# Altium footprint library PEI_PCB_1.1.PcbLib: 310 footprints (part 6 of 20)
Each footprint in its own frame and in the unit in brackets; x right, y up, seen from the top. Pads: shape width x height; smd on the part's side, far side on the other; paste and mask are expansions set on the pad; w line width, h text height; cw(c..) or ccw(c..) is an arc to the next point about the centre after c.
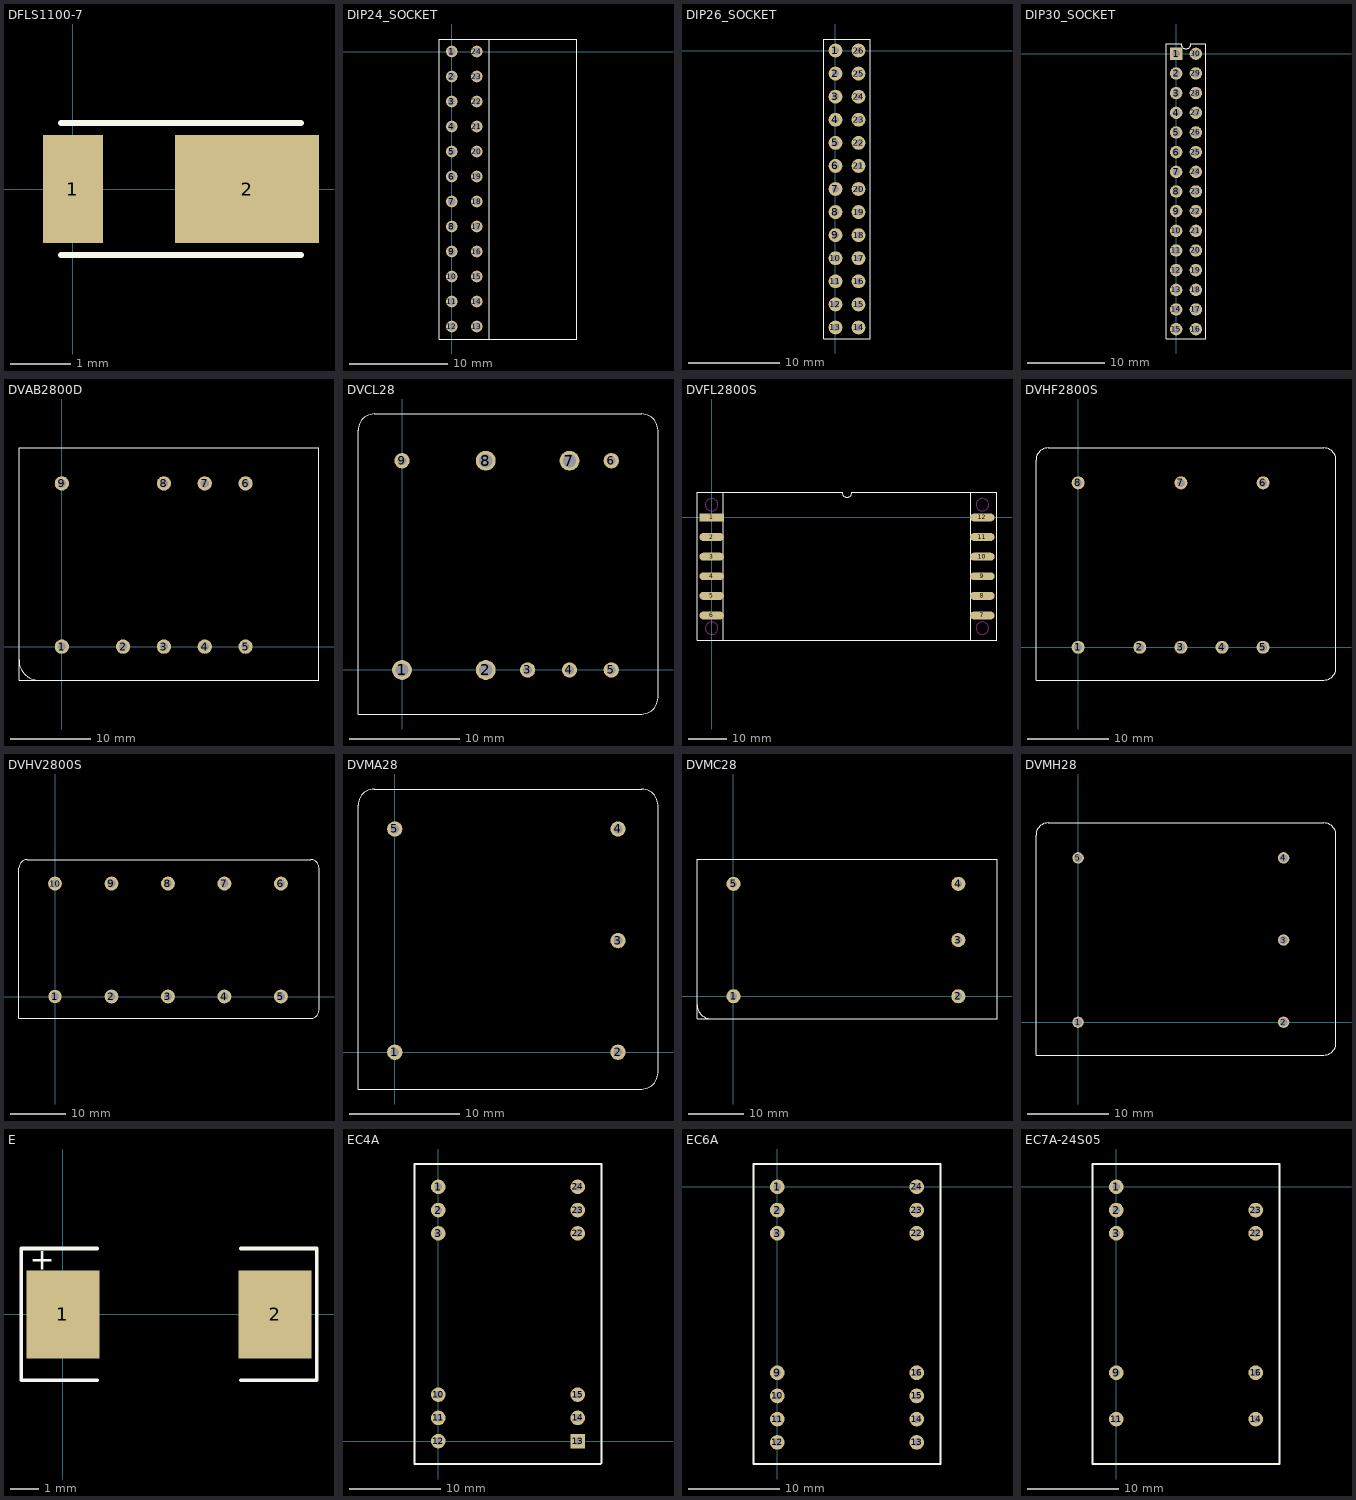
[diagram p5: the footprints below, top view; thin cyan lines are the x and y axes]

## DFLS1100-7 [mm]
pads (2):
  rect 1x1.8 smd: 1(0,0)
  rect 2.4x1.8 smd: 2(2.9,0)
TopOverlay:
  lines w0.1: -0.2,-1.1 3.8,-1.1 ; -0.2,1.1 3.8,1.1

## DIP24_SOCKET [mm]
pads (24):
  round 1.2 hole 0.8: 1(0,0) 2(0,-2.54) 3(0,-5.08) 4(0,-7.62) 5(0,-10.16) 6(0,-12.7) 7(0,-15.24) 8(0,-17.78) 9(0,-20.32) 10(0,-22.86) 11(0,-25.4) 12(0,-27.94) 13(2.54,-27.94) 14(2.54,-25.4) 15(2.54,-22.86) 16(2.54,-20.32) 17(2.54,-17.78) 18(2.54,-15.24) 19(2.54,-12.7) 20(2.54,-10.16) 21(2.54,-7.62) 22(2.54,-5.08) 23(2.54,-2.54) 24(2.54,0)
TopOverlay:
  lines w0.127: 3.81,-29.21 3.81,1.27 ; -1.27,-29.21 12.7,-29.21 12.7,1.27 -1.27,1.27 -1.27,-29.21

## DIP26_SOCKET [mil]
pads (26):
  round 60 hole 30: 1(0,0) 2(0,-100) 3(0,-200) 4(0,-300) 5(0,-400) 6(0,-500) 7(0,-600) 8(0,-700) 9(0,-800) 10(0,-900) 11(0,-1000) 12(0,-1100) 13(0,-1200) 14(100,-1200) 15(100,-1100) 16(100,-1000) 17(100,-900) 18(100,-800) 19(100,-700) 20(100,-600) 21(100,-500) 22(100,-400) 23(100,-300) 24(100,-200) 25(100,-100) 26(100,0)
TopOverlay:
  lines w5: -50,-1250 -50,50 150,50 150,-1250 -50,-1250

## DIP30_SOCKET [mm]
pads (30):
  rect 1.6x1.6 hole 1: 1(0,0)
  round 1.6 hole 1: 2(0,-2.54) 3(0,-5.08) 4(0,-7.62) 5(0,-10.16) 6(0,-12.7) 7(0,-15.24) 8(0,-17.78) 9(0,-20.32) 10(0,-22.86) 11(0,-25.4) 12(0,-27.94) 13(0,-30.48) 14(0,-33.02) 15(0,-35.56) 16(2.54,-35.56) 17(2.54,-33.02) 18(2.54,-30.48) 19(2.54,-27.94) 20(2.54,-25.4) 21(2.54,-22.86) 22(2.54,-20.32) 23(2.54,-17.78) 24(2.54,-15.24) 25(2.54,-12.7) 26(2.54,-10.16) 27(2.54,-7.62) 28(2.54,-5.08) 29(2.54,-2.54) 30(2.54,0)
TopOverlay:
  lines w0.127: -1.27,-36.83 -1.27,1.27 0.635,1.27 ccw(c1.27,1.27) 1.905,1.27 3.81,1.27 3.81,-36.83 -1.27,-36.83

## DVAB2800D [mil]
pads (9):
  round 70 hole 40: 1(0.39,-0.4) 2(300.39,-0.4) 3(500.39,-0.4) 4(700.39,-0.4) 5(900.39,-0.4) 6(900.39,799.6) 7(700.39,799.6) 8(500.39,799.6) 9(0.39,799.6)
TopOverlay:
  lines w3.94: -209.61,-65.4 ccw(c-109.61,-65.4) -109.61,-165.4 ; -209.61,-165.4 1260.39,-165.4 1260.39,974.6 -209.61,974.6 -209.61,-165.4

## DVCL28 [mm]
height 12
pads (9):
  round 1.8 hole 1.2: 1(0,0) 2(7.62,0) 7(15.24,19.05) 8(7.62,19.05)
  round 1.4 hole 0.8: 3(11.43,0) 4(15.24,0) 5(19.05,0) 6(19.05,19.05) 9(0,19.05)
TopOverlay:
  lines w0.1: -4.01,-4.01 -4.01,21.8 cw(c-2.51,21.8) -2.51,23.3 21.8,23.3 cw(c21.8,21.8) 23.3,21.8 23.3,-2.51 cw(c21.8,-2.51) 21.8,-4.01 -4.01,-4.01

## DVFL2800S [mil]
pads (12):
  rect 250x80 smd: 1(0.35,-0.46)
  oval 250x80 smd: 2(0.35,-200.46) 3(0.35,-400.46) 4(0.35,-600.46) 5(0.35,-800.46) 6(0.35,-1000.46) 7(2760.35,-1000.46) 8(2760.35,-800.46) 9(2760.35,-600.46) 10(2760.35,-400.46) 11(2760.35,-200.46) 12(2760.35,-0.46)
TopOverlay:
  lines w3.94: 120.35,-1255.46 120.35,254.54 ; 2640.35,-1255.46 2640.35,254.54 ; -149.65,-1255.46 2910.35,-1255.46 2910.35,254.54 1430.35,254.54 cw(c1380.35,254.54) 1330.35,254.54 -149.65,254.54 -149.65,-1255.46
KeepOutLayer:
  circle w3.94: c2760.35,-1130.46 r64
  circle w3.94: c0.35,-1130.46 r64
  circle w3.94: c2760.35,129.54 r64
  circle w3.94: c0.35,129.54 r64

## DVHF2800S [mm]
height 15
pads (8):
  round 1.6 hole 1: 1(0,0) 2(7.62,0) 3(12.7,0) 4(17.78,0) 5(22.86,0) 6(22.86,20.32) 7(12.7,20.32) 8(0,20.32)
TopOverlay:
  lines w0.1: -5.21,-4.06 -5.21,23.14 cw(c-3.71,23.14) -3.71,24.64 30.37,24.64 cw(c30.37,23.14) 31.87,23.14 31.87,-2.56 cw(c30.37,-2.56) 30.37,-4.06 -5.21,-4.06

## DVHV2800S [mm]
height 17
pads (10):
  round 2.4 hole 1.4: 1(0,0)
  round 2.5 hole 1.4: 2(10.16,0) 3(20.32,0) 4(30.48,0) 5(40.64,0) 6(40.64,20.32) 7(30.48,20.32) 8(20.32,20.32) 9(10.16,20.32) 10(0,20.32)
TopOverlay:
  lines w0.1: -6.48,-3.94 46,-3.94 ccw(c46,-2.44) 47.5,-2.44 47.5,23.14 ccw(c46,23.14) 46,24.64 -4.98,24.64 ccw(c-4.98,23.14) -6.48,23.14 -6.48,-3.94

## DVMA28 [mm]
height 12
pads (5):
  round 1.4 hole 0.8: 1(0,0) 2(20.32,0) 3(20.32,10.16) 4(20.32,20.32) 5(0,20.32)
TopOverlay:
  lines w0.1: -3.35,-3.35 22.46,-3.35 ccw(c22.46,-1.85) 23.96,-1.85 23.96,22.46 ccw(c22.46,22.46) 22.46,23.96 -1.85,23.96 ccw(c-1.85,22.46) -3.35,22.46 -3.35,-3.35

## DVMC28 [mm]
pads (5):
  round 2.54 hole 1.27: 1(0.01,0.012) 2(40.65,0.012) 3(40.65,10.172) 4(40.65,20.332) 5(0.01,20.332)
TopOverlay:
  lines w0.1: -6.594,-1.512 ccw(c-4.054,-1.512) -4.054,-4.052 ; -6.594,-4.052 -6.594,24.777 47.635,24.777 47.635,-4.052 -6.594,-4.052

## DVMH28 [mm]
height 15
pads (5):
  round 1.4 hole 1: 1(0,0) 2(25.4,0) 3(25.4,10.16) 4(25.4,20.32) 5(0,20.32)
TopOverlay:
  lines w0.1: -5.21,-4.06 -5.21,23.14 cw(c-3.71,23.14) -3.71,24.64 30.37,24.64 cw(c30.37,23.14) 31.87,23.14 31.87,-2.56 cw(c30.37,-2.56) 30.37,-4.06 -5.21,-4.06

## E [mil]
pads (2):
  rect 100x120 smd: 1(0,0) 2(290,0)
TopOverlay:
  lines w5: 47,-90 -57,-90 -57,90 47,90 ; 243,-90 347,-90 347,90 243,90
  text "+" at -45,61 h30

## EC4A [mm]
pads (12):
  round 1.6 hole 0.8: 1(0,27.8) 2(0,25.26) 3(0,22.72) 10(0,5.08) 11(0,2.54) 12(0,0) 14(15.24,2.54) 15(15.24,5.08) 22(15.24,22.72) 23(15.24,25.26) 24(15.24,27.8)
  rect 1.6x1.6 hole 0.8: 13(15.24,0)
TopOverlay:
  lines w0.2: -2.6,-2.5 17.76,-2.5 17.84,-2.42 17.84,30.3 -2.6,30.3 -2.6,-2.5

## EC6A [mm]
pads (14):
  round 1.6 hole 0.8: 1(0,0) 2(0,-2.54) 3(0,-5.08) 9(0,-20.32) 10(0,-22.86) 11(0,-25.4) 12(0,-27.94) 13(15.24,-27.94) 14(15.24,-25.4) 15(15.24,-22.86) 16(15.24,-20.32) 22(15.24,-5.08) 23(15.24,-2.54) 24(15.24,0)
TopOverlay:
  lines w0.2: 17.84,-30.302 17.84,2.5 -2.6,2.5 -2.6,-30.3 17.84,-30.3

## EC7A-24S05 [mm]
pads (9):
  round 1.6 hole 0.8: 1(0,0) 2(0,-2.54) 3(0,-5.08) 9(0,-20.32) 11(0,-25.4) 14(15.24,-25.4) 16(15.24,-20.32) 22(15.24,-5.08) 23(15.24,-2.54)
TopOverlay:
  lines w0.2: 17.84,-30.302 17.84,2.5 -2.6,2.5 -2.6,-30.3 17.84,-30.3